# Altium footprint library PcbLib.PcbLib: 11 footprints
Each footprint in its own frame and in the unit in brackets; x right, y up, seen from the top. Pads: shape width x height; smd on the part's side, far side on the other; paste and mask are expansions set on the pad; w line width, h text height; cw(c..) or ccw(c..) is an arc to the next point about the centre after c.
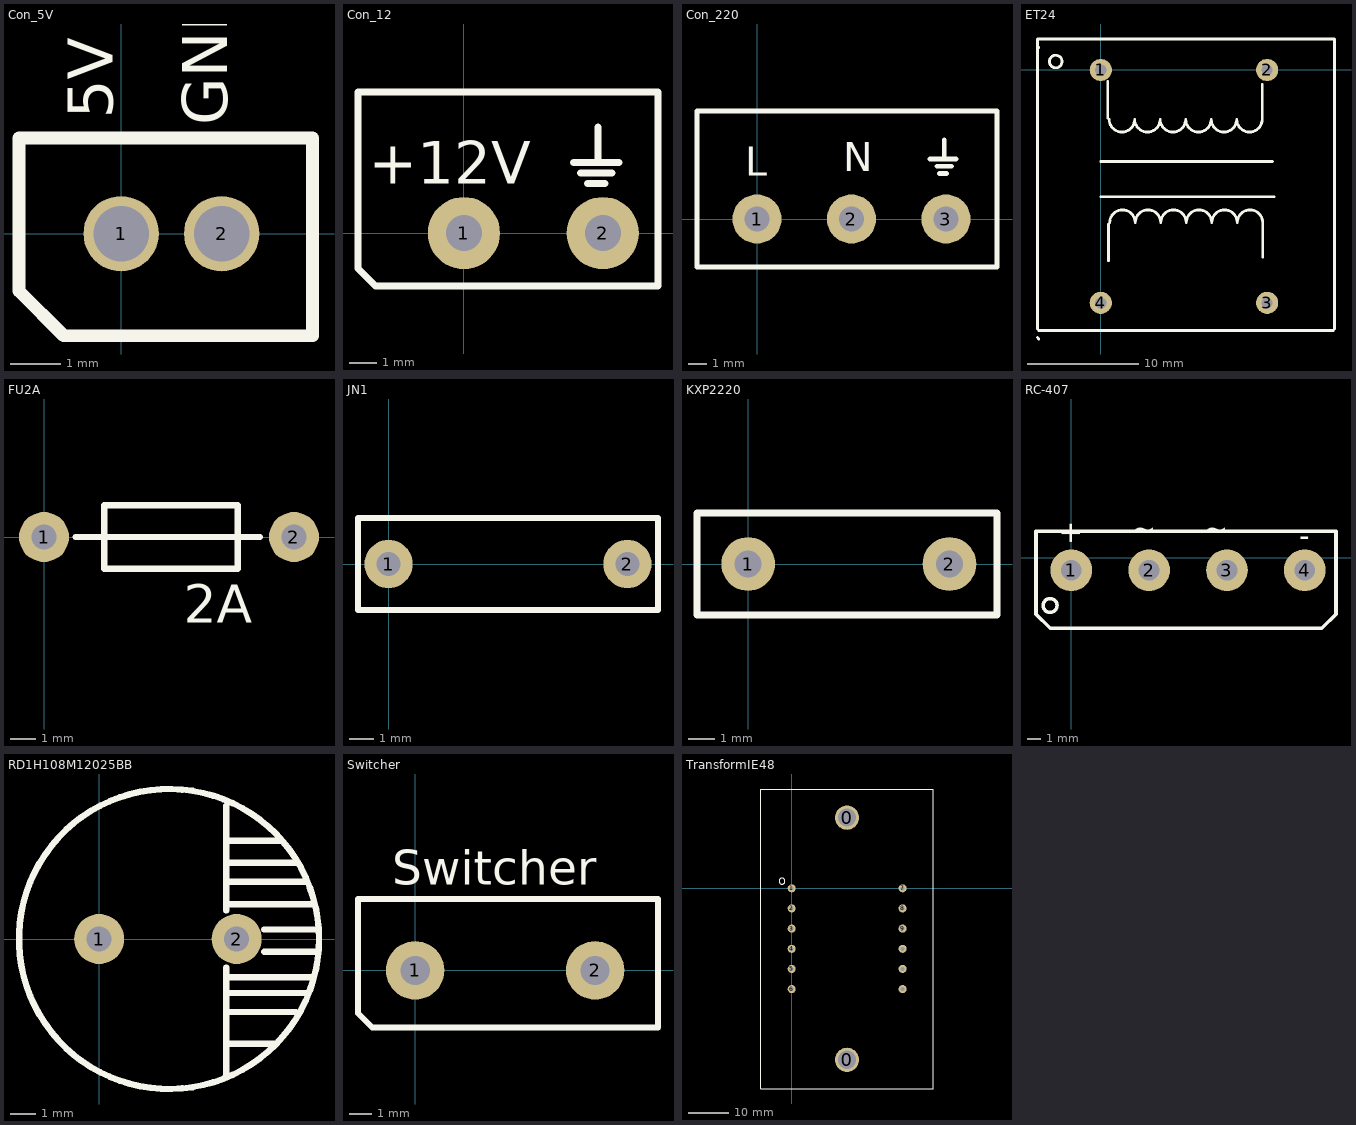
[diagram p0: the footprints below, top view; thin cyan lines are the x and y axes]

## Con_5V [mm]
pads (2):
  round 1.5 hole 1.1: 1(0,0) 2(2,0)
Top Overlay:
  lines w0.254: -2.032,-1.143 -1.143,-2.032 3.81,-2.032 3.81,1.905 -2.032,1.905 -2.032,-1.143
  text "GND" at 2.413,2.159 h1.52
  text "5V" at 0.127,2.286 h1.52
3D body "РазъемWB-2.STEP": height 9.39, standoff -1.49, extent -2.111,-2.032 3.889,1.968

## Con_12 [mm]
pads (2):
  round 2.6 hole 1.3: 1(0,0) 2(5,0)
Top Overlay:
  lines w0.254: 3.937,2.54 5.588,2.54 ; 4.191,2.159 5.334,2.159 ; 4.445,1.778 5.08,1.778 ; 4.826,2.54 4.826,3.81 ; -3.81,-1.27 -3.175,-1.905 6.985,-1.905 6.985,5.08 -3.81,5.08 -3.81,-1.27
  text "+12V" at -3.429,1.778 h1.52

## Con_220 [mm]
pads (3):
  round 2.6 hole 1.3: 1(0,0) 2(5,0) 3(10,0)
Top Overlay:
  lines w0.254: 9.144,3.175 10.541,3.175 ; 9.525,2.794 10.287,2.794 ; 9.652,2.413 10.033,2.413 ; 9.906,3.175 9.906,4.191 ; -3.175,-2.54 -3.175,-1.27 -3.175,5.715 12.7,5.715 12.7,-2.54 -3.175,-2.54
  text "N" at 4.572,2.54 h1.52
  text "L" at -0.635,2.286 h1.52

## ET24 [mm]
pads (4):
  round 2 hole 1: 1(0,0) 2(15,0) 3(15,-21) 4(0,-21)
Top Overlay:
  lines w0.254: -5.715,-24.13 -5.588,-24.257 ; -5.715,-23.368 -5.715,2.794 ; -5.715,2.159 -5.588,2.032 ; -5.588,-23.495 20.955,-23.495 ; -5.588,2.794 21.082,2.794 21.082,-23.368 ; -3.504,0.855 ccw(c-4.064,0.762) -3.496,0.762 ; 0,-11.43 15.621,-11.43 ; 0,-8.255 15.494,-8.255 ; 0.635,-4.318 0.635,-1.016 ; 0.685,-17.195 0.685,-13.893 ; 0.755,-4.445 ccw(c1.905,-4.445) 3.055,-4.445 ccw(c4.205,-4.445) 5.355,-4.445 ccw(c6.505,-4.445) 7.655,-4.445 ccw(c8.805,-4.445) 9.955,-4.445 ccw(c11.105,-4.445) 12.255,-4.445 ccw(c13.405,-4.445) 14.555,-4.445 14.555,-1.32 ; 0.805,-13.766 cw(c1.955,-13.766) 3.105,-13.766 cw(c4.255,-13.766) 5.405,-13.766 cw(c6.555,-13.766) 7.705,-13.766 cw(c8.855,-13.766) 10.005,-13.766 cw(c11.155,-13.766) 12.305,-13.766 cw(c13.455,-13.766) 14.605,-13.766 14.605,-16.891
3D body "AT24.STEP": height 22, standoff -3, extent -5.5,-23.5 20.5,2.5

## FU2A [mm]
pads (2):
  round 2 hole 1: 1(0,0) 2(10,0)
Top Overlay:
  lines w0.254: 1.27,0 8.636,0 ; 2.413,-1.27 7.747,-1.27 7.747,1.27 2.413,1.27 2.413,-1.27
  text "2A" at 5.588,-3.429 h1.52
3D body "FU2A.STEP": height 5.9, standoff -3, extent -0.45,-2.901 10.45,2.901

## JN1 [mm]
pads (2):
  round 2 hole 1: 1(0,0) 2(9.906,0)
Top Overlay:
  lines w0.254: -1.27,-1.905 -1.27,1.905 11.176,1.905 11.176,-1.905 -1.27,-1.905
3D body "JN1.STEP": height 10.5, standoff -5.94, extent -0.447,-1.5 10.331,1.5

## KXP2220 [mm]
pads (2):
  round 2 hole 1: 1(0,0) 2(7.5,0)
Top Overlay:
  lines w0.254: -1.905,-1.905 -1.905,1.905 9.271,1.905 9.271,-1.905 -1.905,-1.905
3D body "MKP-220.STEP": height 8.5, standoff -1.5, extent -1.75,-1.5 9.25,1.5

## RC-407 [mm]
pads (4):
  round 3 hole 1.5: 1(0,-0.889) 2(5.6,-0.889) 3(11.2,-0.889) 4(16.8,-0.889)
Top Overlay:
  circle w0.254: c-1.524,-3.429 r0.5
  lines w0.254: -2.54,-4.064 -1.524,-5.08 18.034,-5.08 19.05,-4.064 19.05,1.905 -2.54,1.905 -2.54,-4.064
  text "+" at 0.635,0.889 h1.52
  text "-" at 17.145,2.032 h1.52
  text "~" at 6.096,2.667 h1.52
  text "~" at 11.303,2.667 h1.52
3D body "RS-407.STEP": height 17.15, standoff -6.6, extent -1.35,-5.089 18.15,1.411

## RD1H108M12025BB [mm]
pads (2):
  round 2 hole 1: 1(0,0) 2(5.5,0)
Top Overlay:
  circle w0.254: c2.794,0 r6
  lines w0.254: 5.08,-5.461 5.08,-1.143 ; 5.08,-4.191 6.985,-4.191 ; 5.08,-2.921 7.874,-2.921 ; 5.08,-2.159 8.255,-2.159 ; 5.08,-1.524 8.509,-1.524 ; 5.08,1.143 5.08,5.334 ; 5.08,1.397 8.509,1.397 ; 5.08,2.286 8.255,2.286 ; 5.08,3.048 7.874,3.048 ; 5.207,3.937 7.239,3.937 ; 6.604,-0.508 8.636,-0.508 ; 6.604,0.381 8.636,0.381
3D body "RD1H108M12025BB.STEP": height 18, standoff -6.5, extent -2.25,-5 7.75,5

## Switcher [mm]
pads (2):
  round 2.6 hole 1.3: 1(0,0) 2(8,0)
Top Overlay:
  lines w0.254: -2.54,-1.905 -2.54,3.175 10.795,3.175 10.795,-2.54 -1.905,-2.54 -2.54,-1.905
  text "Switcher" at -1.016,3.81 h1.52

## TransformIE48 [mm]
pads (14):
  round 6 hole 4.5: 0(13.716,-42.545) 0(13.716,17.526)
  round 2 hole 1: 1(0,0) 2(0,-5) 3(0,-10) 4(0,-15) 5(0,-20) 6(0,-25) 7(27.5,0) 8(27.5,-5) 9(27.5,-10) 10(27.5,-15) 11(27.5,-20) 12(27.5,-25)
Top Overlay:
  circle w0.254: c-2.413,1.778 r0.741
  lines w0.254: -7.62,-49.784 -7.62,24.638 -2.794,24.638 35.052,24.638 35.052,-49.784 -7.62,-49.784
3D body "BVEI48.STEP": height 42, standoff -7, extent -7.6,-49.831 35.1,24.832